# Altium schematic symbol library Microsemi Series.SchLib: 3 symbols
Pins are listed as number, name and electrical type; pins without a type are passive.

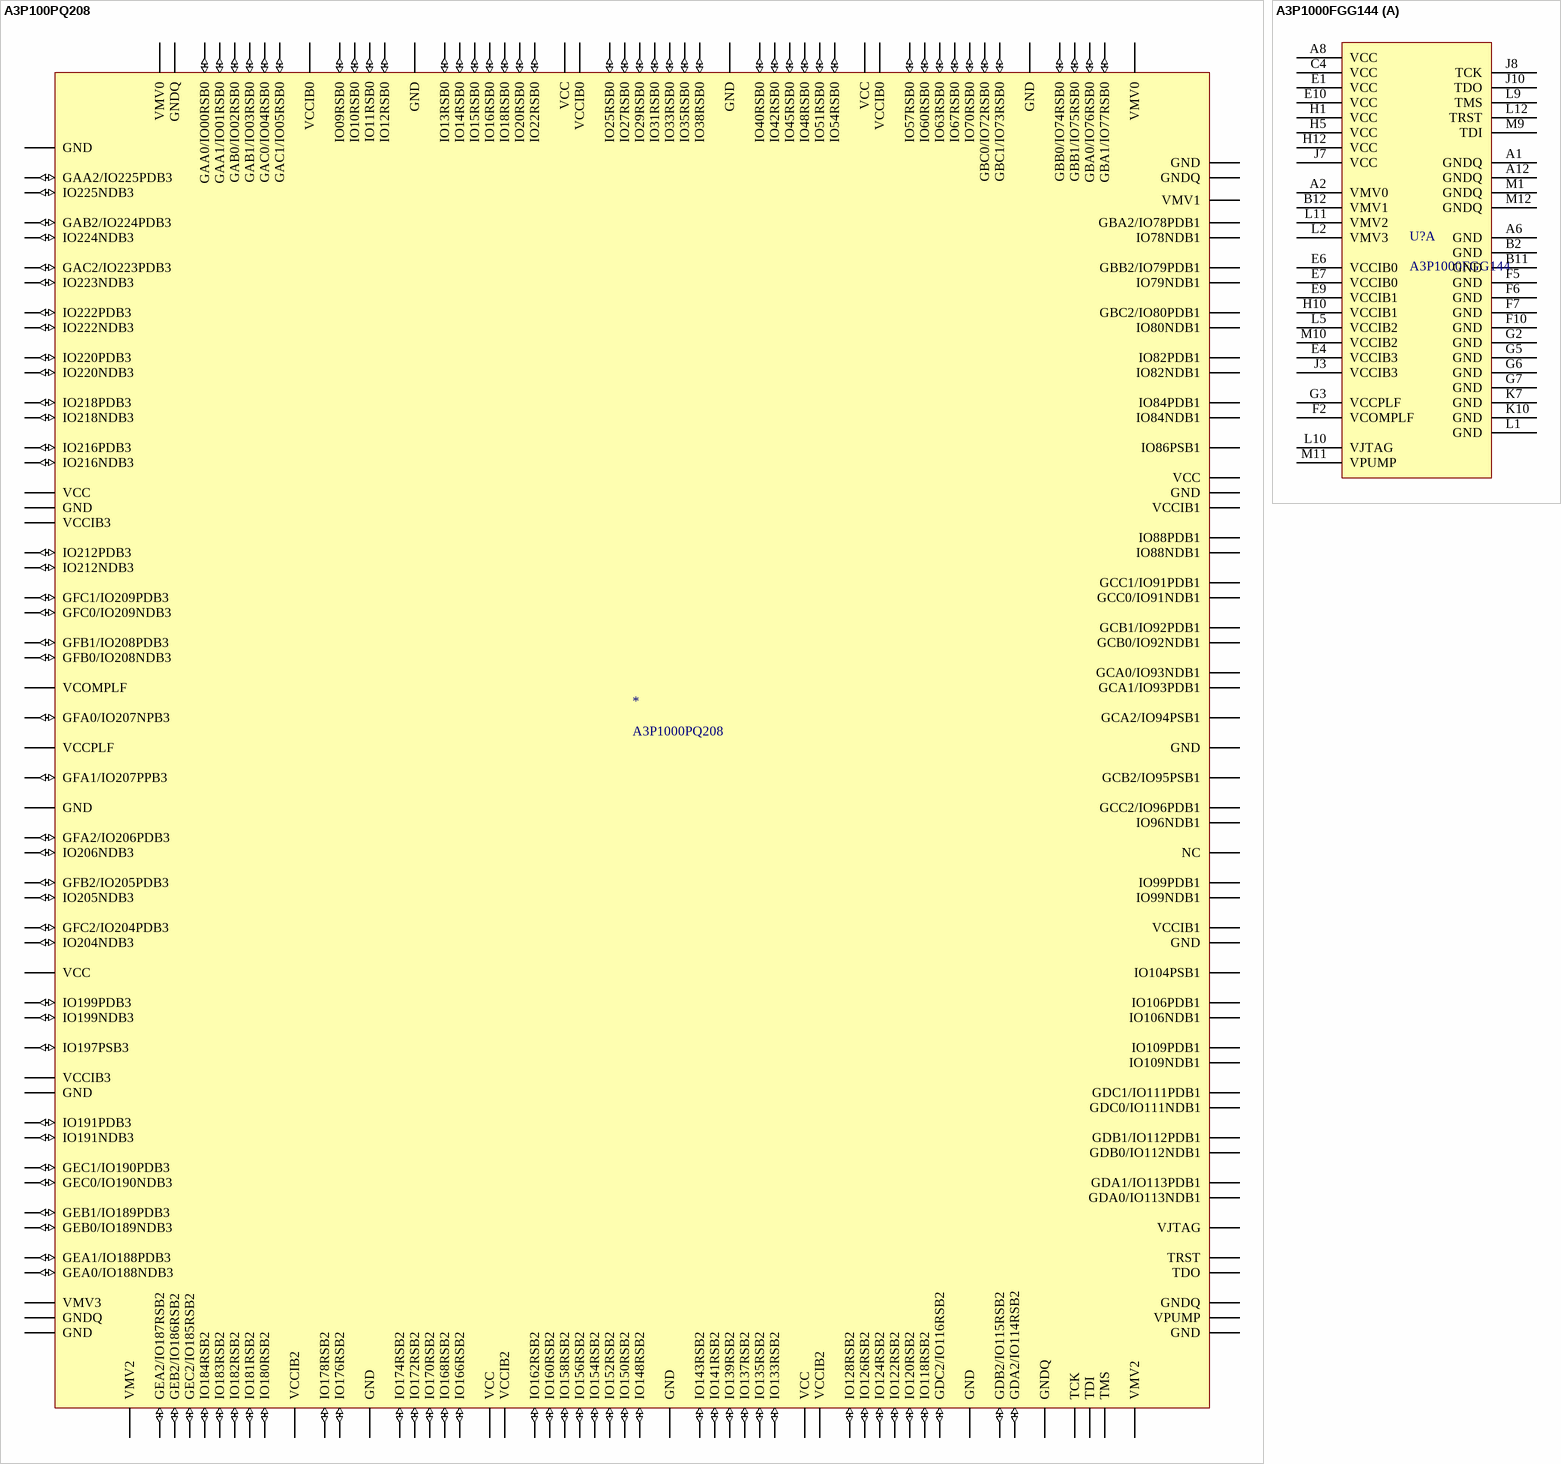
[diagram p0: symbols A3P100PQ208 to A3P1000FGG144]

## A3P100PQ208
designator *, comment A3P1000PQ208
ProASIC3 Flash Family FPGAs
footprint SQFP50P3060X3060X410-208N (SQFP, 208-Leads, Body 28.00x28.00mm, Pitch 0.50mm, IPC Medium Density)
pins: 1 GND (power), 2 GAA2/IO225PDB3 (io), 3 IO225NDB3 (io), 4 GAB2/IO224PDB3 (io), 5 IO224NDB3 (io), 6 GAC2/IO223PDB3 (io), 7 IO223NDB3 (io), 8 IO222PDB3 (io), 9 IO222NDB3 (io), 10 IO220PDB3 (io), 11 IO220NDB3 (io), 12 IO218PDB3 (io), 13 IO218NDB3 (io), 14 IO216PDB3 (io), 15 IO216NDB3 (io), 16 VCC (power), 17 GND (power), 18 VCCIB3 (power), 19 IO212PDB3 (io), 20 IO212NDB3 (io), 21 GFC1/IO209PDB3 (io), 22 GFC0/IO209NDB3 (io), 23 GFB1/IO208PDB3 (io), 24 GFB0/IO208NDB3 (io), 25 VCOMPLF (power), 26 GFA0/IO207NPB3 (io), 27 VCCPLF (power), 28 GFA1/IO207PPB3 (io), 29 GND (power), 30 GFA2/IO206PDB3 (io), 31 IO206NDB3 (io), 32 GFB2/IO205PDB3 (io), 33 IO205NDB3 (io), 34 GFC2/IO204PDB3 (io), 35 IO204NDB3 (io), 36 VCC (power), 37 IO199PDB3 (io), 38 IO199NDB3 (io), 39 IO197PSB3 (io), 40 VCCIB3 (power), 41 GND (power), 42 IO191PDB3 (io), 43 IO191NDB3 (io), 44 GEC1/IO190PDB3 (io), 45 GEC0/IO190NDB3 (io), 46 GEB1/IO189PDB3 (io), 47 GEB0/IO189NDB3 (io), 48 GEA1/IO188PDB3 (io), 49 GEA0/IO188NDB3 (io), 50 VMV3 (power), 51 GNDQ (power), 52 GND (power), 53 VMV2 (power), 54 GEA2/IO187RSB2 (io), 55 GEB2/IO186RSB2 (io), 56 GEC2/IO185RSB2 (io), 57 IO184RSB2 (io), 58 IO183RSB2 (io), 59 IO182RSB2 (io), 60 IO181RSB2 (io), 61 IO180RSB2 (io), 62 VCCIB2 (power), 63 IO178RSB2 (io), 64 IO176RSB2 (io), 65 GND (power), 66 IO174RSB2 (io), 67 IO172RSB2 (io), 68 IO170RSB2 (io), 69 IO168RSB2 (io), 70 IO166RSB2 (io), 71 VCC (power), 72 VCCIB2 (power), 73 IO162RSB2 (io), 74 IO160RSB2 (io), 75 IO158RSB2 (io), 76 IO156RSB2 (io), 77 IO154RSB2 (io), 78 IO152RSB2 (io), 79 IO150RSB2 (io), 80 IO148RSB2 (io), 81 GND (power), 82 IO143RSB2 (io), 83 IO141RSB2 (io), 84 IO139RSB2 (io), 85 IO137RSB2 (io), 86 IO135RSB2 (io), 87 IO133RSB2 (io), 88 VCC (power), 89 VCCIB2 (power), 90 IO128RSB2 (io), 91 IO126RSB2 (io), 92 IO124RSB2 (io), 93 IO122RSB2 (io), 94 IO120RSB2 (io), 95 IO118RSB2 (io), 96 GDC2/IO116RSB2 (io), 97 GND (power), 98 GDB2/IO115RSB2 (io), 99 GDA2/IO114RSB2 (io), 100 GNDQ (power), 101 TCK, 102 TDI, 103 TMS, 104 VMV2 (power), 105 GND (power), 106 VPUMP (power), 107 GNDQ (power), 108 TDO (power), 109 TRST (power), 110 VJTAG (power), 111 GDA0/IO113NDB1 (power), 112 GDA1/IO113PDB1 (power), 113 GDB0/IO112NDB1 (power), 114 GDB1/IO112PDB1 (power), 115 GDC0/IO111NDB1 (power), 116 GDC1/IO111PDB1 (power), 117 IO109NDB1 (power), 118 IO109PDB1 (power), 119 IO106NDB1 (power), 120 IO106PDB1 (power), 121 IO104PSB1 (power), 122 GND (power), 123 VCCIB1 (power), 124 IO99NDB1 (power), 125 IO99PDB1 (power), 126 NC, 127 IO96NDB1 (power), 128 GCC2/IO96PDB1 (power), 129 GCB2/IO95PSB1 (power), 130 GND, 131 GCA2/IO94PSB1 (power), 132 GCA1/IO93PDB1 (power), 133 GCA0/IO93NDB1 (power), 134 GCB0/IO92NDB1 (power), 135 GCB1/IO92PDB1 (power), 136 GCC0/IO91NDB1 (power), 137 GCC1/IO91PDB1 (power), 138 IO88NDB1 (power), 139 IO88PDB1 (power), 140 VCCIB1, 141 GND, 142 VCC, 143 IO86PSB1, 144 IO84NDB1, 145 IO84PDB1, 146 IO82NDB1, 147 IO82PDB1, 148 IO80NDB1, 149 GBC2/IO80PDB1, 150 IO79NDB1, 151 GBB2/IO79PDB1, 152 IO78NDB1, 153 GBA2/IO78PDB1, 154 VMV1, 155 GNDQ, 156 GND, 157 VMV0 (power), 158 GBA1/IO77RSB0 (io), 159 GBA0/IO76RSB0 (io), 160 GBB1/IO75RSB0 (io), 161 GBB0/IO74RSB0 (io), 162 GND (power), 163 GBC1/IO73RSB0 (io), 164 GBC0/IO72RSB0 (io), 165 IO70RSB0 (io), 166 IO67RSB0 (io), 167 IO63RSB0 (io), 168 IO60RSB0 (io), 169 IO57RSB0 (io), 170 VCCIB0 (power), 171 VCC (power), 172 IO54RSB0 (io), 173 IO51RSB0 (io), 174 IO48RSB0 (io), 175 IO45RSB0 (io), 176 IO42RSB0 (io), 177 IO40RSB0 (io), 178 GND (power), 179 IO38RSB0 (io), 180 IO35RSB0 (io), 181 IO33RSB0 (io), 182 IO31RSB0 (io), 183 IO29RSB0 (io), 184 IO27RSB0 (io), 185 IO25RSB0 (io), 186 VCCIB0 (power), 187 VCC (power), 188 IO22RSB0 (io), 189 IO20RSB0 (io), 190 IO18RSB0 (io), 191 IO16RSB0 (io), 192 IO15RSB0 (io), 193 IO14RSB0 (io), 194 IO13RSB0 (io), 195 GND (power), 196 IO12RSB0 (io), 197 IO11RSB0 (io), 198 IO10RSB0 (io), 199 IO09RSB0 (io), 200 VCCIB0 (power), 201 GAC1/IO05RSB0 (io), 202 GAC0/IO04RSB0 (io), 203 GAB1/IO03RSB0 (io), 204 GAB0/IO02RSB0 (io), 205 GAA1/IO01RSB0 (io), 206 GAA0/IO00RSB0 (io), 207 GNDQ (power), 208 VMV0 (power)

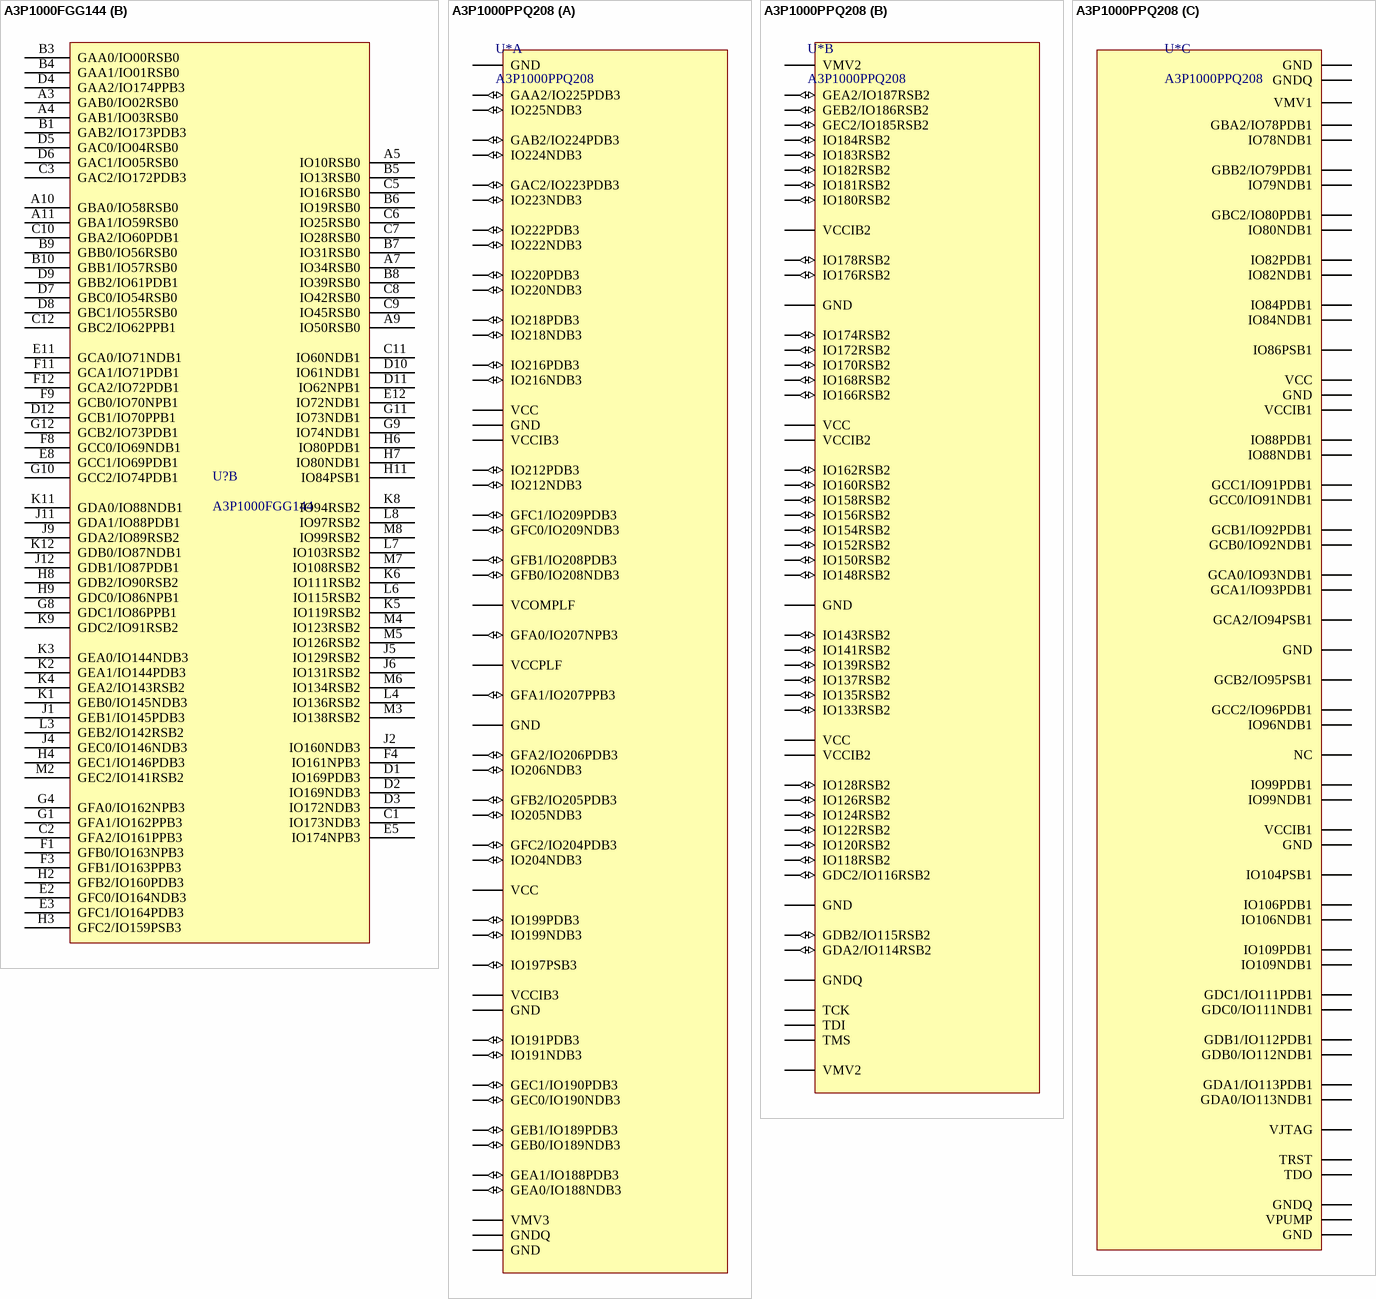
[diagram p1: symbols A3P1000FGG144 to A3P1000PPQ208]

## A3P1000FGG144
designator U?
ProASIC3 Flash Family FPGAs
footprint BGA144C100P12X12_1300X1300X155 (BGA, 144-Leads, Body 13.00x13.00mmx1.55mm, Pitch 1.00mm)
part A pins: A1 GNDQ, A2 VMV0, A6 GND, A8 VCC, A12 GNDQ, B2 GND, B11 GND, B12 VMV1, C4 VCC, E1 VCC, E4 VCCIB3, E6 VCCIB0, E7 VCCIB0, E9 VCCIB1, E10 VCC, F2 VCOMPLF, F5 GND, F6 GND, F7 GND, F10 GND, G2 GND, G3 VCCPLF, G5 GND, G6 GND, G7 GND, H1 VCC, H5 VCC, H10 VCCIB1, H12 VCC, J3 VCCIB3, J7 VCC, J8 TCK, J10 TDO, K7 GND, K10 GND, L1 GND, L2 VMV3, L5 VCCIB2, L9 TMS, L10 VJTAG, L11 VMV2, L12 TRST, M1 GNDQ, M9 TDI, M10 VCCIB2, M11 VPUMP, M12 GNDQ
part B pins: A3 GAB0/IO02RSB0, A4 GAB1/IO03RSB0, A5 IO10RSB0, A7 IO34RSB0, A9 IO50RSB0, A10 GBA0/IO58RSB0, A11 GBA1/IO59RSB0, B1 GAB2/IO173PDB3, B3 GAA0/IO00RSB0, B4 GAA1/IO01RSB0, B5 IO13RSB0, B6 IO19RSB0, B7 IO31RSB0, B8 IO39RSB0, B9 GBB0/IO56RSB0, B10 GBB1/IO57RSB0, C1 IO173NDB3, C2 GFA2/IO161PPB3, C3 GAC2/IO172PDB3, C5 IO16RSB0, C6 IO25RSB0, C7 IO28RSB0, C8 IO42RSB0, C9 IO45RSB0, C10 GBA2/IO60PDB1, C11 IO60NDB1, C12 GBC2/IO62PPB1, D1 IO169PDB3, D2 IO169NDB3, D3 IO172NDB3, D4 GAA2/IO174PPB3, D5 GAC0/IO04RSB0, D6 GAC1/IO05RSB0, D7 GBC0/IO54RSB0, D8 GBC1/IO55RSB0, D9 GBB2/IO61PDB1, D10 IO61NDB1, D11 IO62NPB1, D12 GCB1/IO70PPB1, E2 GFC0/IO164NDB3, E3 GFC1/IO164PDB3, E5 IO174NPB3, E8 GCC1/IO69PDB1, E11 GCA0/IO71NDB1, E12 IO72NDB1, F1 GFB0/IO163NPB3, F3 GFB1/IO163PPB3, F4 IO161NPB3, F8 GCC0/IO69NDB1, F9 GCB0/IO70NPB1, F11 GCA1/IO71PDB1, F12 GCA2/IO72PDB1, G1 GFA1/IO162PPB3, G4 GFA0/IO162NPB3, G8 GDC1/IO86PPB1, G9 IO74NDB1, G10 GCC2/IO74PDB1, G11 IO73NDB1, G12 GCB2/IO73PDB1, H2 GFB2/IO160PDB3, H3 GFC2/IO159PSB3, H4 GEC1/IO146PDB3, H6 IO80PDB1, H7 IO80NDB1, H8 GDB2/IO90RSB2, H9 GDC0/IO86NPB1, H11 IO84PSB1, J1 GEB1/IO145PDB3, J2 IO160NDB3, J4 GEC0/IO146NDB3, J5 IO129RSB2, J6 IO131RSB2, J9 GDA2/IO89RSB2, J11 GDA1/IO88PDB1, J12 GDB1/IO87PDB1, K1 GEB0/IO145NDB3, K2 GEA1/IO144PDB3, K3 GEA0/IO144NDB3, K4 GEA2/IO143RSB2, K5 IO119RSB2, K6 IO111RSB2, K8 IO94RSB2, K9 GDC2/IO91RSB2, K11 GDA0/IO88NDB1, K12 GDB0/IO87NDB1, L3 GEB2/IO142RSB2, L4 IO136RSB2, L6 IO115RSB2, L7 IO103RSB2, L8 IO97RSB2, M2 GEC2/IO141RSB2, M3 IO138RSB2, M4 IO123RSB2, M5 IO126RSB2, M6 IO134RSB2, M7 IO108RSB2, M8 IO99RSB2

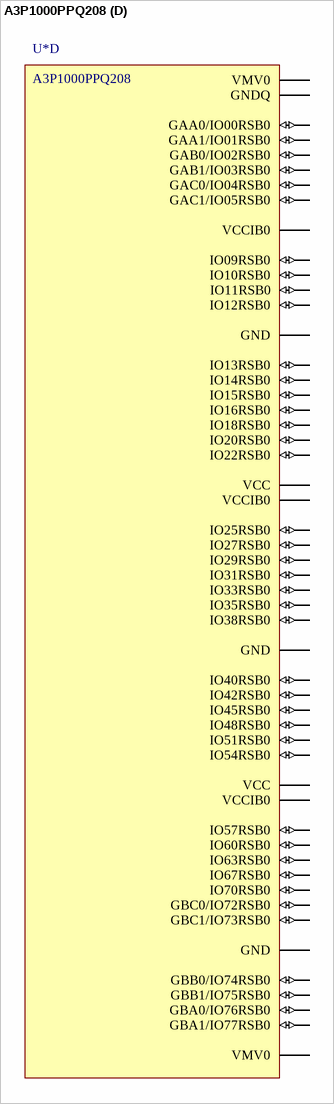
[diagram p2: symbol A3P1000PPQ208]

## A3P1000PPQ208
designator U*
ProASIC3 Flash Family FPGAs
part A pins: 1 GND (power), 2 GAA2/IO225PDB3 (io), 3 IO225NDB3 (io), 4 GAB2/IO224PDB3 (io), 5 IO224NDB3 (io), 6 GAC2/IO223PDB3 (io), 7 IO223NDB3 (io), 8 IO222PDB3 (io), 9 IO222NDB3 (io), 10 IO220PDB3 (io), 11 IO220NDB3 (io), 12 IO218PDB3 (io), 13 IO218NDB3 (io), 14 IO216PDB3 (io), 15 IO216NDB3 (io), 16 VCC (power), 17 GND (power), 18 VCCIB3 (power), 19 IO212PDB3 (io), 20 IO212NDB3 (io), 21 GFC1/IO209PDB3 (io), 22 GFC0/IO209NDB3 (io), 23 GFB1/IO208PDB3 (io), 24 GFB0/IO208NDB3 (io), 25 VCOMPLF (power), 26 GFA0/IO207NPB3 (io), 27 VCCPLF (power), 28 GFA1/IO207PPB3 (io), 29 GND (power), 30 GFA2/IO206PDB3 (io), 31 IO206NDB3 (io), 32 GFB2/IO205PDB3 (io), 33 IO205NDB3 (io), 34 GFC2/IO204PDB3 (io), 35 IO204NDB3 (io), 36 VCC (power), 37 IO199PDB3 (io), 38 IO199NDB3 (io), 39 IO197PSB3 (io), 40 VCCIB3 (power), 41 GND (power), 42 IO191PDB3 (io), 43 IO191NDB3 (io), 44 GEC1/IO190PDB3 (io), 45 GEC0/IO190NDB3 (io), 46 GEB1/IO189PDB3 (io), 47 GEB0/IO189NDB3 (io), 48 GEA1/IO188PDB3 (io), 49 GEA0/IO188NDB3 (io), 50 VMV3 (power), 51 GNDQ (power), 52 GND (power)
part B pins: 53 VMV2 (power), 54 GEA2/IO187RSB2 (io), 55 GEB2/IO186RSB2 (io), 56 GEC2/IO185RSB2 (io), 57 IO184RSB2 (io), 58 IO183RSB2 (io), 59 IO182RSB2 (io), 60 IO181RSB2 (io), 61 IO180RSB2 (io), 62 VCCIB2 (power), 63 IO178RSB2 (io), 64 IO176RSB2 (io), 65 GND (power), 66 IO174RSB2 (io), 67 IO172RSB2 (io), 68 IO170RSB2 (io), 69 IO168RSB2 (io), 70 IO166RSB2 (io), 71 VCC (power), 72 VCCIB2 (power), 73 IO162RSB2 (io), 74 IO160RSB2 (io), 75 IO158RSB2 (io), 76 IO156RSB2 (io), 77 IO154RSB2 (io), 78 IO152RSB2 (io), 79 IO150RSB2 (io), 80 IO148RSB2 (io), 81 GND (power), 82 IO143RSB2 (io), 83 IO141RSB2 (io), 84 IO139RSB2 (io), 85 IO137RSB2 (io), 86 IO135RSB2 (io), 87 IO133RSB2 (io), 88 VCC (power), 89 VCCIB2 (power), 90 IO128RSB2 (io), 91 IO126RSB2 (io), 92 IO124RSB2 (io), 93 IO122RSB2 (io), 94 IO120RSB2 (io), 95 IO118RSB2 (io), 96 GDC2/IO116RSB2 (io), 97 GND (power), 98 GDB2/IO115RSB2 (io), 99 GDA2/IO114RSB2 (io), 100 GNDQ (power), 101 TCK, 102 TDI, 103 TMS, 104 VMV2 (power)
part C pins: 105 GND (power), 106 VPUMP (power), 107 GNDQ (power), 108 TDO (power), 109 TRST (power), 110 VJTAG (power), 111 GDA0/IO113NDB1 (power), 112 GDA1/IO113PDB1 (power), 113 GDB0/IO112NDB1 (power), 114 GDB1/IO112PDB1 (power), 115 GDC0/IO111NDB1 (power), 116 GDC1/IO111PDB1 (power), 117 IO109NDB1 (power), 118 IO109PDB1 (power), 119 IO106NDB1 (power), 120 IO106PDB1 (power), 121 IO104PSB1 (power), 122 GND (power), 123 VCCIB1 (power), 124 IO99NDB1 (power), 125 IO99PDB1 (power), 126 NC, 127 IO96NDB1 (power), 128 GCC2/IO96PDB1 (power), 129 GCB2/IO95PSB1 (power), 130 GND, 131 GCA2/IO94PSB1 (power), 132 GCA1/IO93PDB1 (power), 133 GCA0/IO93NDB1 (power), 134 GCB0/IO92NDB1 (power), 135 GCB1/IO92PDB1 (power), 136 GCC0/IO91NDB1 (power), 137 GCC1/IO91PDB1 (power), 138 IO88NDB1 (power), 139 IO88PDB1 (power), 140 VCCIB1, 141 GND, 142 VCC, 143 IO86PSB1, 144 IO84NDB1, 145 IO84PDB1, 146 IO82NDB1, 147 IO82PDB1, 148 IO80NDB1, 149 GBC2/IO80PDB1, 150 IO79NDB1, 151 GBB2/IO79PDB1, 152 IO78NDB1, 153 GBA2/IO78PDB1, 154 VMV1, 155 GNDQ, 156 GND
part D pins: 157 VMV0 (power), 158 GBA1/IO77RSB0 (io), 159 GBA0/IO76RSB0 (io), 160 GBB1/IO75RSB0 (io), 161 GBB0/IO74RSB0 (io), 162 GND (power), 163 GBC1/IO73RSB0 (io), 164 GBC0/IO72RSB0 (io), 165 IO70RSB0 (io), 166 IO67RSB0 (io), 167 IO63RSB0 (io), 168 IO60RSB0 (io), 169 IO57RSB0 (io), 170 VCCIB0 (power), 171 VCC (power), 172 IO54RSB0 (io), 173 IO51RSB0 (io), 174 IO48RSB0 (io), 175 IO45RSB0 (io), 176 IO42RSB0 (io), 177 IO40RSB0 (io), 178 GND (power), 179 IO38RSB0 (io), 180 IO35RSB0 (io), 181 IO33RSB0 (io), 182 IO31RSB0 (io), 183 IO29RSB0 (io), 184 IO27RSB0 (io), 185 IO25RSB0 (io), 186 VCCIB0 (power), 187 VCC (power), 188 IO22RSB0 (io), 189 IO20RSB0 (io), 190 IO18RSB0 (io), 191 IO16RSB0 (io), 192 IO15RSB0 (io), 193 IO14RSB0 (io), 194 IO13RSB0 (io), 195 GND (power), 196 IO12RSB0 (io), 197 IO11RSB0 (io), 198 IO10RSB0 (io), 199 IO09RSB0 (io), 200 VCCIB0 (power), 201 GAC1/IO05RSB0 (io), 202 GAC0/IO04RSB0 (io), 203 GAB1/IO03RSB0 (io), 204 GAB0/IO02RSB0 (io), 205 GAA1/IO01RSB0 (io), 206 GAA0/IO00RSB0 (io), 207 GNDQ (power), 208 VMV0 (power)